# EAGLE library part STM32F0F_DEV (library my-library)
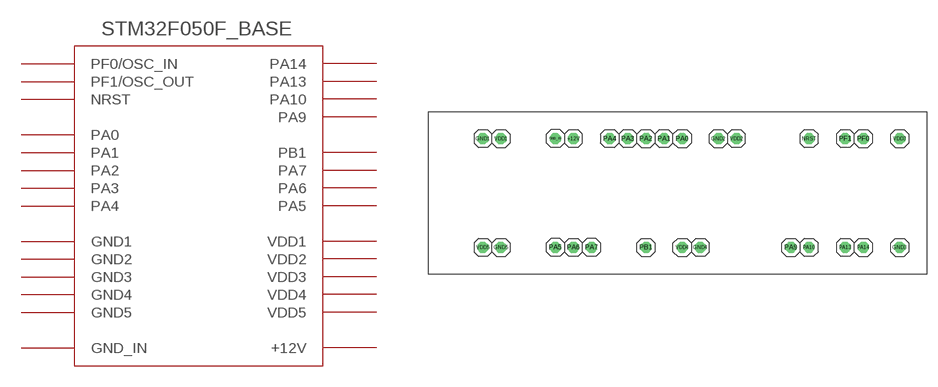
[diagram p1: symbol with the pads of STM32_DEV; footprint STM32_DEV]

Designator prefix -

## STM32F0F_DEV  [STM32_DEV]
+12V  +12V  pas
GND1  GND1  pas
GND2  GND2  pas
GND3  GND3  pas
GND4  GND4  pas
GND5  GND5  pas
GND_IN  GND_IN  pas
NRST  NRST  pas
PA0  PA0  pas
PA1  PA1  pas
PA2  PA2  pas
PA3  PA3  pas
PA4  PA4  pas
PA5  PA5  pas
PA6  PA6  pas
PA7  PA7  pas
PA9  PA9  pas
PA10  PA10  pas
PA13  PA13  pas
PA14  PA14  pas
PB1  PB1  pas
PF0  PF0/OSC_IN  pas
PF1  PF1/OSC_OUT  pas
VDD1  VDD1  pas
VDD2  VDD2  pas
VDD3  VDD3  pas
VDD4  VDD4  pas
VDD5  VDD5  pas

## Footprint STM32_DEV (pad centres in mm)
drill 1.016 octagon: +12V 20.32,19.05; GND1 7.62,19.05; GND2 40.64,19.05; GND3 66.04,3.81; GND4 38.1,3.81; GND5 10.16,3.81; GND_IN 17.78,19.05; NRST 53.34,19.05; PA0 35.56,19.05; PA1 33.02,19.05; PA2 30.48,19.05; PA3 27.94,19.05; PA4 25.4,19.05; PA5 17.78,3.81; PA6 20.32,3.81; PA7 22.86,3.81; PA9 50.8,3.81; PA10 53.34,3.81; PA13 58.42,3.81; PA14 60.96,3.81; PB1 30.48,3.81; PF0 60.96,19.05; PF1 58.42,19.05; VDD1 10.16,19.05; VDD2 43.18,19.05; VDD3 66.04,19.05; VDD4 35.56,3.81; VDD5 7.62,3.81